# Altium schematic symbol library SCREW_2PIN.SchLib: 1 symbol
Pins are listed as number, name and electrical type; pins without a type are passive.

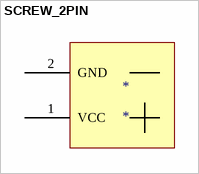
[diagram p0: symbol SCREW_2PIN]

## SCREW_2PIN
designator *
SCREW_2PIN
footprint SCREW_2PIN
pins: 1 VCC, 2 GND